# EAGLE library part NCM6S4815C (library master_library)
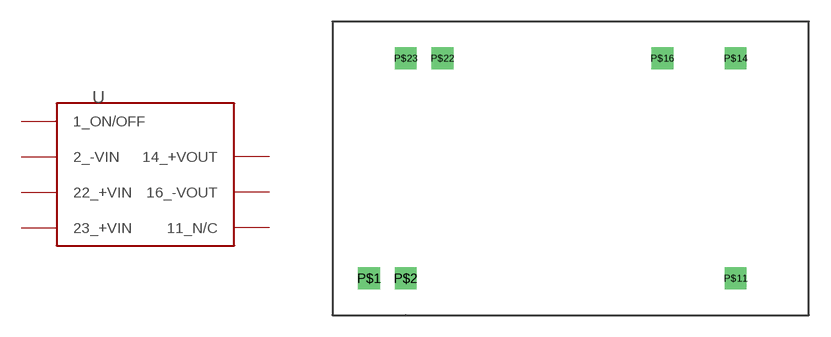
[diagram p6: symbol with the pads of MURATA_MC; footprint MURATA_MC]

Designator prefix -

## NCM6S4815C  [MURATA_MC]
P$1  1_ON/OFF
P$2  2_-VIN
P$11  11_N/C
P$14  14_+VOUT
P$16  16_-VOUT
P$22  22_+VIN
P$23  23_+VIN

## Footprint MURATA_MC (pad centres in mm)
drill 1 square: P$1 -2.54,0; P$2 0,0; P$11 22.86,0; P$14 22.86,15.24; P$16 17.78,15.24; P$22 2.54,15.24; P$23 0,15.24